# EAGLE library part LP3982 (library logic-supply)
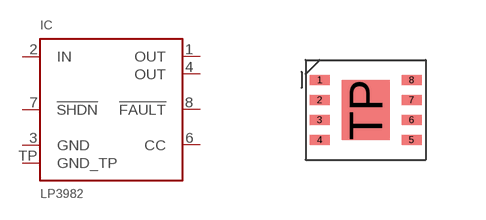
[diagram p45: symbol with the pads of WSON8; footprint WSON8]

Designator prefix IC

## LP3982  [WSON8]
1  OUT
2  IN
3  GND
4  OUT
6  CC
7  !SHDN
8  !FAULT
TP  GND_TP

## Footprint WSON8 (pad centres in mm)
smd 0.5 x 0.25: 1 -1.15,0.75; 2 -1.15,0.25; 3 -1.15,-0.25; 4 -1.15,-0.75; 5 1.15,-0.75; 6 1.15,-0.25; 7 1.15,0.25; 8 1.15,0.75
smd 1.2 x 1.5: TP 0,0